# Altium schematic symbol library NRS4018T4R7MDGJ.SchLib: 1 symbol
Pins are listed as number, name and electrical type; pins without a type are passive.

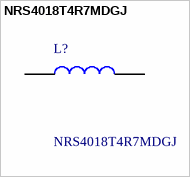
[diagram p0: symbol NRS4018T4R7MDGJ]

## NRS4018T4R7MDGJ
designator L?
Inductor SMD wirewound 4.7uH; Manufacturer_Name: TAIYO YUDEN; Geometry.Height: 1mm; Manufacturer_Part_Number: NRS4018T4R7MDGJ; Mouser Part Number: 963-NRS4018T4R7MDGJ; Mouser Price/Stock: https://www.mouser.co.uk/ProductDetail/Taiyo-Yuden/NRS4018T4R7MDGJ?qs=PzICbMaShUfBUWy4ytltsA%3D%3D; Arrow Part Number: NRS4018T4R7MDGJ; Arrow Price/Stock: https://www.arrow.com/en/products/nrs4018t4r7mdgj/taiyo-yuden; Datasheet Link: https://datasheet.datasheetarchive.com/originals/distributors/Datasheets-DGA11/2190982.pdf
footprint NRS4018T100MDGJ
pins: 1, 2